# Altium footprint library Basic.PcbLib: 6 footprints
Each footprint in its own frame and in the unit in brackets; x right, y up, seen from the top. Pads: shape width x height; smd on the part's side, far side on the other; paste and mask are expansions set on the pad; w line width, h text height; cw(c..) or ccw(c..) is an arc to the next point about the centre after c.
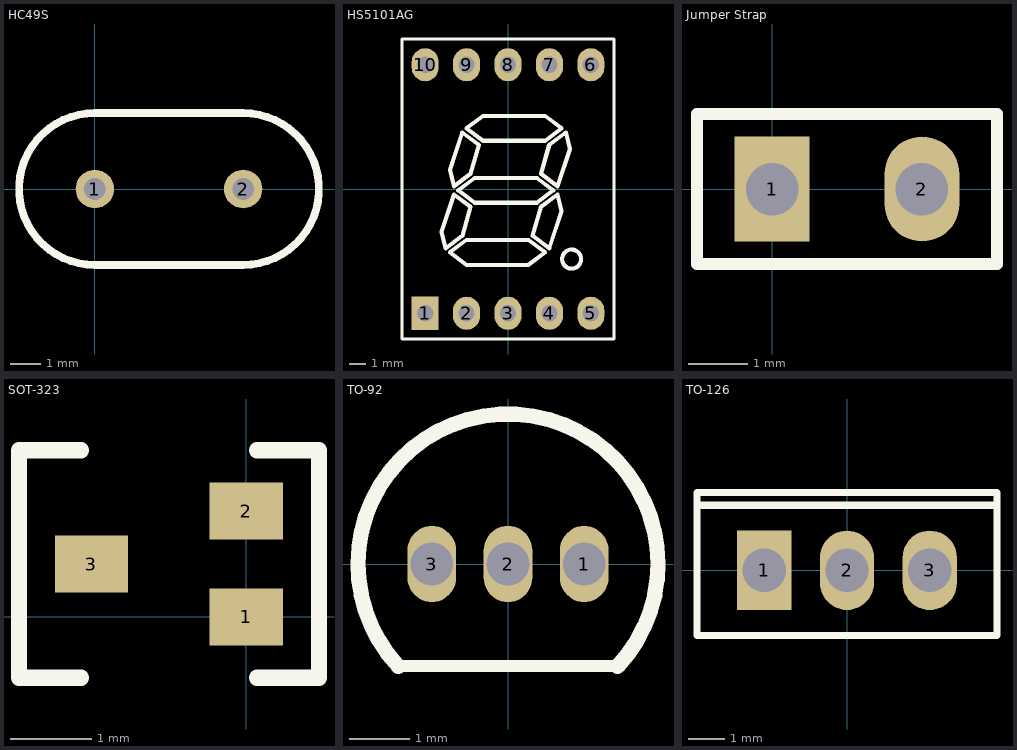
[diagram p0: the footprints below, top view; thin cyan lines are the x and y axes]

## HC49S [mil]
pads (2):
  round 50 hole 28: 1(0,0) 2(192.13,0)
Top Overlay:
  lines w10: 0,-98.43 cw(c0,0) 0,98.43 192.13,98.43 cw(c192.13,0) 192.13,-98.43 0,-98.43
3D body: height 19.68, standoff 3.94, extent -98.92,-98.92 291.05,98.92
3D body: height 157.48, standoff 19.68, extent -87.05,-87.05 279.18,87.05
3D body: height 3.94, standoff -74.8, extent -10.82,-10.82 10.83,10.83
3D body: height 3.94, standoff -74.8, extent 181.31,-10.82 202.96,10.83

## HS5101AG [mil]
pads (10):
  rect 65x80 hole 39.37: 1(-200,-300)
  oval 65x80 hole 39.37: 2(-100,-300) 3(0,-300) 4(100,-300) 5(200,-300) 6(200,300) 7(100,300) 8(0,300) 9(-100,300) 10(-200,300)
Top Overlay:
  circle w10: c153.54,-169.29 r22.96
  lines w7.87: -255.91,-362.2 255.91,-362.2 255.91,362.2 -255.91,362.2 -255.91,-362.2
  lines w10: -160.46,-103.24 -130.45,-13.38 -90.44,-43.33 -110.44,-113.22 -150.46,-143.17 -160.46,-103.24 ; -140.45,-153.16 -100.44,-183.11 49.59,-183.11 89.6,-153.16 49.59,-123.21 -100.44,-123.21 -140.45,-153.16 ; -140.45,46.52 -110.44,136.38 -70.44,106.43 -90.44,36.54 -130.45,6.59 -140.45,46.52 ; -120.45,-3.4 -80.44,-33.35 69.6,-33.35 109.61,-3.4 69.6,26.55 -80.44,26.55 -120.45,-3.4 ; -100.44,146.36 -60.43,116.41 89.6,116.41 129.61,146.36 89.6,176.32 -60.43,176.32 -100.44,146.36 ; 59.6,-113.22 79.6,-43.33 119.61,-13.38 129.61,-53.32 99.61,-143.17 59.6,-113.22 ; 79.6,36.54 99.61,106.43 139.62,136.38 149.62,96.44 119.61,6.59 79.6,36.54
3D body: height 279.53, standoff 3.94, extent -140.47,-183.13 89.63,-123.19
3D body: height 279.53, standoff 3.94, extent 130.16,-192.68 176.93,-145.91
3D body: height 279.53, standoff 3.94, extent -100.46,116.39 129.64,176.34
3D body: height 279.53, standoff 3.94, extent -140.47,6.55 -70.41,136.41
3D body: height 279.53, standoff 3.94, extent -120.47,-33.37 109.63,26.57
3D body: height 279.53, standoff 3.94, extent -160.48,-143.21 -90.42,-13.35
3D body: height 3.94, standoff -74.8, extent -210.82,-310.82 -189.17,-289.17
3D body: height 3.94, standoff -74.8, extent -110.82,-310.82 -89.17,-289.17
3D body: height 3.94, standoff -74.8, extent -10.82,-310.82 10.83,-289.17
3D body: height 3.94, standoff -74.8, extent 89.18,-310.82 110.83,-289.17
3D body: height 3.94, standoff -74.8, extent 189.18,-310.82 210.83,-289.17
3D body: height 3.94, standoff -74.8, extent 189.18,289.18 210.83,310.83
3D body: height 3.94, standoff -74.8, extent 89.18,289.18 110.83,310.83
3D body: height 3.94, standoff -74.8, extent -10.82,289.18 10.83,310.83
3D body: height 3.94, standoff -74.8, extent -110.82,289.18 -89.17,310.83
3D body: height 3.94, standoff -74.8, extent -210.82,289.18 -189.17,310.83
3D body: height 279.53, standoff 3.94, extent 79.6,6.59 149.62,136.38
3D body: height 279.53, standoff 3.94, extent 59.6,-143.17 129.61,-13.38
3D body: height 275.59, standoff 3.94, extent -255.91,-354.33 255.91,362.2

## Jumper Strap [mil] "Jumper Strap"
pads (2):
  rect 50x70 hole 35: 1(0,0)
  oval 50x70 hole 35: 2(100,0)
Top Overlay:
  lines w7.87: -50,-50 150,-50 150,50 -50,50 -50,-50
Mechanical 1:
  lines w7.87: -50,-50 -50,50 150,50 150,-50 -50,-50
3D body: height 90, standoff 0, extent -50,-45.99 50,46
3D body: height 320, standoff -90, extent -12.5,-12.5 12.5,12.5
3D body: height 90, standoff 0, extent 50,-45.99 150,46
3D body: height 320, standoff -90, extent 87.5,-12.5 112.5,12.5

## SOT-323 [mm]
pads (3):
  rect 0.9x0.7 smd: 1(0,0) 2(0,1.3) 3(-1.9,0.65)
Top Overlay:
  lines w0.2: -2.027,-0.747 -2.789,-0.747 -2.789,2.047 -2.027,2.047 ; 0.132,-0.747 0.894,-0.747 0.894,2.047 0.132,2.047
3D body: height 0.3, standoff 0, extent -0.168,1.016 0.422,1.588
3D body: height 0.3, standoff 0, extent -0.168,-0.286 0.422,0.286
3D body: height 0.3, standoff 0, extent -2.327,0.381 -1.737,0.953
3D body: height 0.8, standoff 0, extent -1.733,-0.635 -0.127,1.905

## TO-92 [mil]
pads (3):
  oval 32x50 hole 28: 1(50,0) 2(0,0) 3(-50,0)
Top Overlay:
  lines w7.87: -72.02,-67.09 71.74,-67.09
  lines w10: -72.02,-67.09 cw(c0,0) 71.88,-67.23
3D body: height 299.21, standoff 98.43, extent -98.74,-66.93 99.02,99.06
3D body: height 125.98, standoff -74.8, extent -60.74,-10.8 -39.17,10.81
3D body: height 125.98, standoff -74.8, extent -10.74,-10.8 10.83,10.81
3D body: height 125.98, standoff -74.8, extent 39.26,-10.8 60.83,10.81

## TO-126 [mm]
pads (3):
  rect 1.5x2.2 hole 1.2: 1(-2.29,0)
  oval 1.5x2.2 hole 1.2: 2(0,0) 3(2.29,0)
Top Overlay:
  lines w0.2: -4.15,1.8 4.15,1.8 ; -4.15,-1.8 4.15,-1.8 4.15,2.15 -4.15,2.15 -4.15,-1.8
3D body: height 13.2, standoff 2, extent -4.1,-1.8 4.1,1.65
3D body: height 2, standoff -2, extent 1.865,-0.3 2.715,0.3
3D body: height 2, standoff -2, extent -0.425,-0.3 0.425,0.3
3D body: height 2, standoff -2, extent -2.715,-0.3 -1.865,0.3